# Altium footprint library wifi_alarm_clock.PcbLib: 25 footprints (part 1 of 2)
Each footprint in its own frame and in the unit in brackets; x right, y up, seen from the top. Pads: shape width x height; smd on the part's side, far side on the other; paste and mask are expansions set on the pad; w line width, h text height; cw(c..) or ccw(c..) is an arc to the next point about the centre after c.
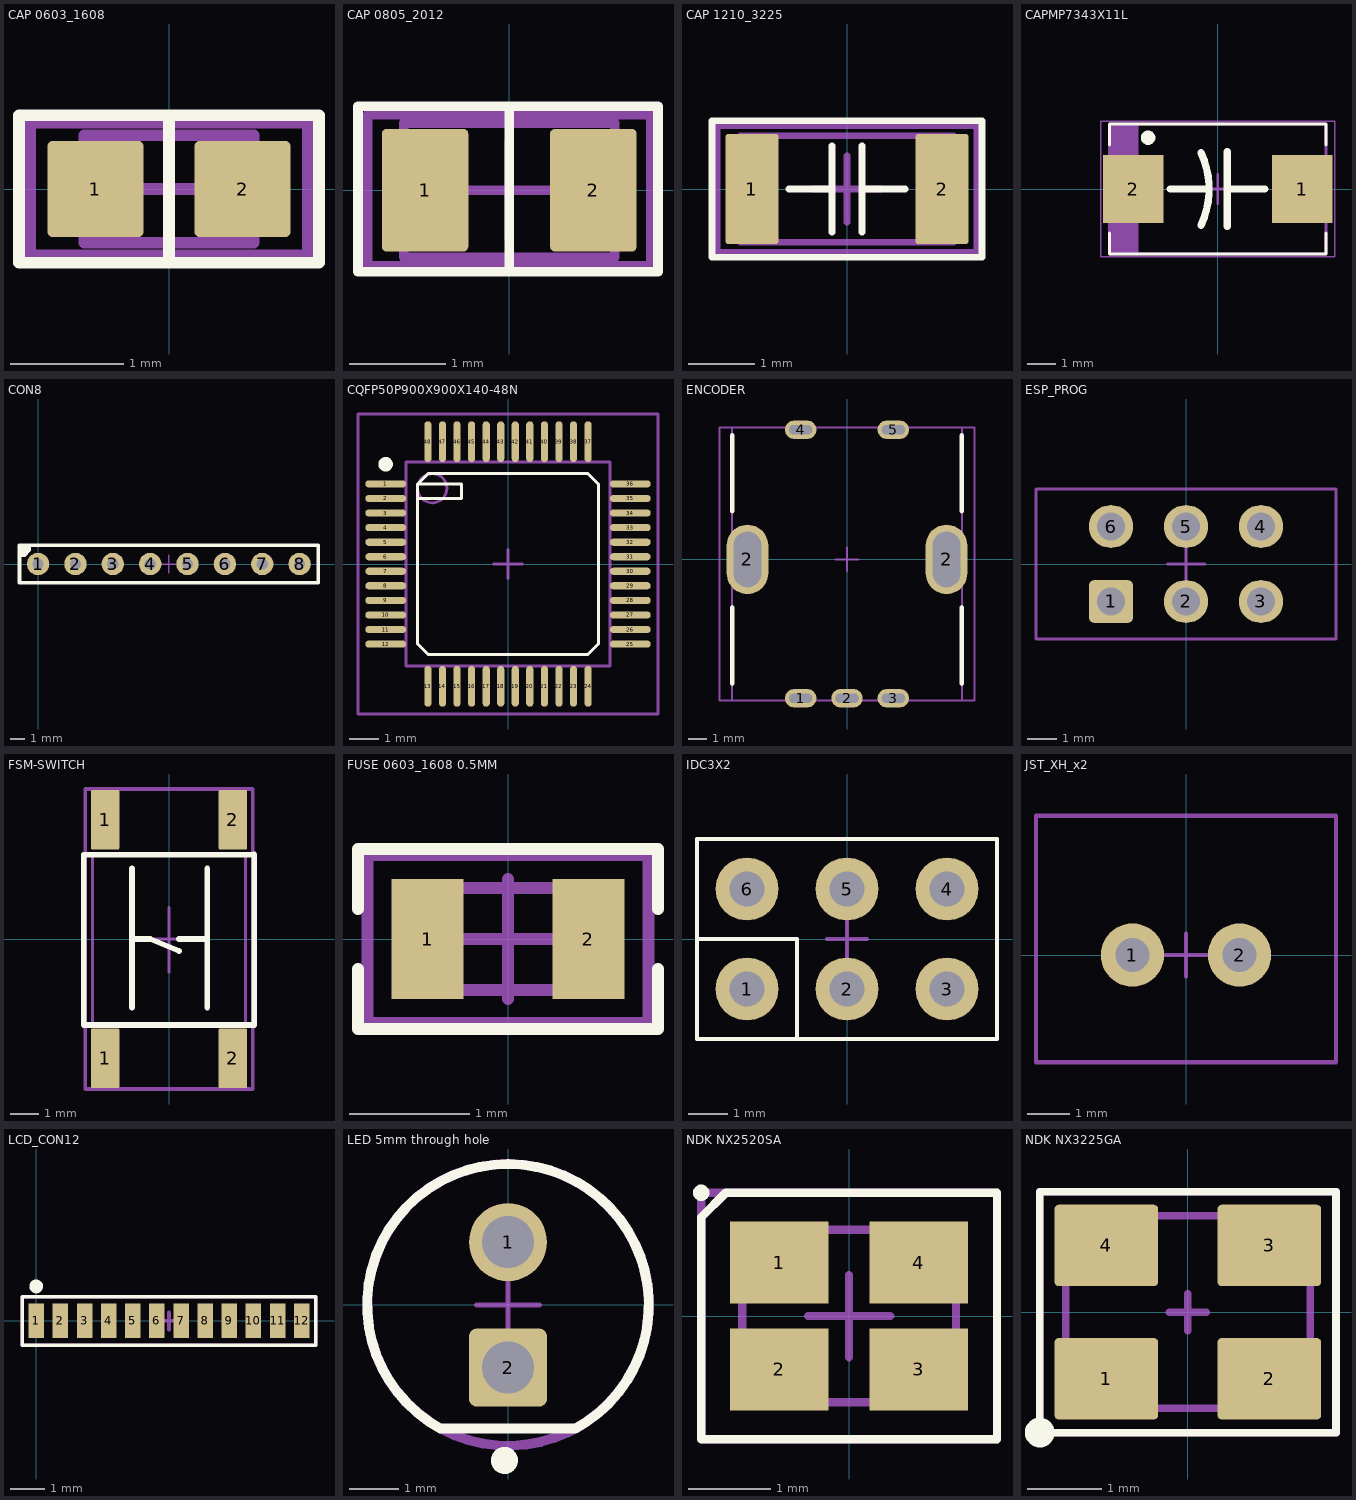
[diagram p0: the footprints below, top view; thin cyan lines are the x and y axes]

## CAP 0603_1608 [mm] "Chip Capacitor, 2-Leads, Body 1.60x0.80mm, IPC Medium Density"
height 0.89
pads (2):
  rrect10% 0.848x0.848 smd: 1(-0.65,0) 2(0.65,0)
Top Overlay:
  lines w0.102: 0,-0.65 0,0.65 ; -1.325,-0.65 1.325,-0.65 1.325,0.65 -1.325,0.65 -1.325,-0.65
Top Courtyard:
  lines w0.102: -0.475,0 0.475,0 ; 0,-0.475 0,0.475 ; -1.225,-0.584 1.225,-0.584 1.225,0.584 -1.225,0.584 -1.225,-0.584
Top Assembly:
  lines w0.102: -0.75,-0.475 0.75,-0.475 0.75,0.475 -0.75,0.475 -0.75,-0.475
3D body "0603 cap.STEP": height 0.82, standoff 0, extent -0.8,-0.412 0.8,0.412

## CAP 0805_2012 [mm] "Chip Capacitor, 2-Leads, Body 2.00x1.20mm, IPC Medium Density"
height 1.15
pads (2):
  rrect10% 0.9x1.275 smd: 1(-0.876,0) 2(0.876,0)
Top Overlay:
  lines w0.102: 0,-0.85 0,0.875 ; -1.575,-0.85 1.55,-0.85 1.55,0.875 -1.575,0.875 -1.575,-0.85
Top Courtyard:
  lines w0.1: -0.5,0 0.5,0 ; 0,-0.5 0,0.5
  lines w0.102: -1.473,-0.787 -1.473,0.787 1.473,0.787 1.473,-0.787 -1.473,-0.787
Top Assembly:
  lines w0.1: -1.1,-0.7 1.1,-0.7 1.1,0.7 -1.1,0.7 -1.1,-0.7
3D body "0805 cap.STEP": height 1.26, standoff -0.02, extent -1,-0.637 1,0.637

## CAP 1210_3225 [mm] "Chip Capacitor, 2-Leads, Body 3.20x1.60mm, IPC High Density"
height 1.2
pads (2):
  rrect10% 0.8x1.65 smd: 1(-1.425,0) 2(1.425,0)
Top Overlay:
  lines w0.102: -0.875,0 -0.225,0 ; -0.225,-0.65 -0.225,0.65 ; 0.225,-0.65 0.225,0.65 ; 0.225,0 0.875,0 ; -2.025,-1.025 2.025,-1.025 2.025,1.025 -2.025,1.025 -2.025,-1.025
Top Courtyard:
  lines w0.102: -0.5,0 0.5,0 ; 0,-0.5 0,0.5 ; -1.95,-0.95 1.95,-0.95 1.95,0.95 -1.95,0.95 -1.95,-0.95
Top Assembly:
  lines w0.102: -1.6,-0.8 1.6,-0.8 1.6,0.8 -1.6,0.8 -1.6,-0.8
3D body "CAPC3216X12L.step": height 1.2, standoff 0, extent -1.6,-0.8 1.6,0.8

## CAPMP7343X11L [mm] "Molded Capacitor, 2-Leads, Body 7.30x4.30mm, IPC High Density"
height 1.1
pads (2):
  rrect1% 2.1x2.35 smd: 1(2.925,0) 2(-2.925,0)
Top Overlay:
  circle w0.25: c-2.413,1.778 r0.125
  lines w0.102: -3.75,-1.526 -3.75,-2.25 3.75,-2.25 3.75,-1.526 ; -3.75,1.526 -3.75,2.25 3.75,2.25 3.75,1.526
  lines w0.254: -1.65,0 -0.3,0 ; -0.581,-1.268 ccw(c-3.3,0) -0.581,1.268 ; 0.325,-1.3 0.325,1.3 ; 0.325,0 1.625,0
Top Courtyard:
  lines w0.05: -4.05,-2.35 4.05,-2.35 4.05,2.35 -4.05,2.35 -4.05,-2.35
  lines w0.1: -0.5,0 0.5,0 ; 0,-0.5 0,0.5
Top Assembly:
  rectangle: -3.75,-2.25 -2.741,2.25
  lines w0.102: -3.75,-2.25 3.75,-2.25 3.75,2.25 -3.75,2.25 -3.75,-2.25
3D body "CAPMP7343X11L.step": height 1.1, standoff 0, extent -3.97,-2.25 3.97,2.25

## CON8 [mil]
pads (8):
  round 60 hole 30: 1(0,0) 2(100,0) 3(200,0) 4(300,0) 5(400,0) 6(500,0) 7(600,0) 8(700,0)
Top Overlay:
  region: -50,50 -20,50 -20,35 -35,20 -50,20
  lines w10: -50,-50 750,-50 750,50 -50,50 -50,-50
Top Courtyard:
  lines w4: 325,0 375,0 ; 350,-25 350,25 ; -51.18,-51.18 -51.18,51.18 751.97,51.18 751.97,-51.18 -51.18,-51.18
Top Assembly:
  lines w4: -49.21,-49.21 -49.21,49.21 749.02,49.21 749.02,-49.21 -49.21,-49.21

## CQFP50P900X900X140-48N [mm] "CQFP, 48-Leads, Body 9.00x9.00mm, Pitch 0.50mm, IPC Medium Density"
height 1.4
pads (48):
  oval 1.4x0.25 smd: 1(-4.2,2.75) 2(-4.2,2.25) 3(-4.2,1.75) 4(-4.2,1.25) 5(-4.2,0.75) 6(-4.2,0.25) 7(-4.2,-0.25) 8(-4.2,-0.75) 9(-4.2,-1.25) 10(-4.2,-1.75) 11(-4.2,-2.25) 12(-4.2,-2.75) 25(4.2,-2.75) 26(4.2,-2.25) 27(4.2,-1.75) 28(4.2,-1.25) 29(4.2,-0.75) 30(4.2,-0.25) 31(4.2,0.25) 32(4.2,0.75) 33(4.2,1.25) 34(4.2,1.75) 35(4.2,2.25) 36(4.2,2.75)
  oval 0.25x1.4 smd: 13(-2.75,-4.2) 14(-2.25,-4.2) 15(-1.75,-4.2) 16(-1.25,-4.2) 17(-0.75,-4.2) 18(-0.25,-4.2) 19(0.25,-4.2) 20(0.75,-4.2) 21(1.25,-4.2) 22(1.75,-4.2) 23(2.25,-4.2) 24(2.75,-4.2) 37(2.75,4.2) 38(2.25,4.2) 39(1.75,4.2) 40(1.25,4.2) 41(0.75,4.2) 42(0.25,4.2) 43(-0.25,4.2) 44(-0.75,4.2) 45(-1.25,4.2) 46(-1.75,4.2) 47(-2.25,4.2) 48(-2.75,4.2)
Top Overlay:
  circle w0.25: c-4.2,3.425 r0.125
  lines w0.102: -3.1,2.25 -1.6,2.25 -1.6,2.75 -3.1,2.75 ; -3.1,2.75 -2.75,3.1 2.75,3.1 3.1,2.75 3.1,-2.75 2.75,-3.1 -2.75,-3.1 -3.1,-2.75 -3.1,2.75
Top Courtyard:
  lines w0.102: -0.5,0 0.5,0 ; 0,-0.5 0,0.5 ; -5.15,-5.15 5.15,-5.15 5.15,5.15 -5.15,5.15 -5.15,-5.15
Top Assembly:
  circle w0.1: c-2.6,2.6 r0.5
  lines w0.1: -3.5,-3.5 3.5,-3.5 3.5,3.5 -3.5,3.5 -3.5,-3.5
3D body "CQFP50P900X900X140-48N.step": height 1.15, standoff 0, extent -4.5,-4.5 4.5,4.5

## ENCODER [mm] "Rotary encoder"
pads (7):
  oval 1.7x1 hole 0.5 slot 1.25 at 0 deg: 1(-2.5,-7.5) 2(0,-7.5) 3(2.5,-7.5) 4(-2.5,7) 5(2.5,7)
  rrect100% 2.25x3.75 hole 1.5 slot 3 at 90 deg: 2(-5.375,0)
  oval 2.25x3.75 hole 1.5 slot 3 at 90 deg: 2(5.375,0)
Top Overlay:
  lines w0.254: -6.2,-6.7 -6.2,-2.6 ; -6.2,2.6 -6.2,6.7 ; 6.2,-6.7 6.2,-2.6 ; 6.2,2.6 6.2,6.7
Top Courtyard:
  lines w0.102: -0.635,0 0.635,0 ; 0,-0.635 0,0.635 ; -6.875,-7.625 6.875,-7.625 6.875,7.125 -6.875,7.125 -6.875,-7.625
Top Assembly:
  lines w0.102: -6.2,-7.625 -6.2,7.125 6.2,7.125 6.2,-7.625 -6.2,-7.625
3D body "rotary_encoder.STEP": height 21.4, standoff -3.7, extent -6.156,-7.747 6.144,7.253

## ESP_PROG [mm]
pads (6):
  rrect25% 1.5x1.45 hole 0.95: 1(-2.54,-1.27)
  oval 1.5x1.45 hole 0.95: 2(0,-1.27) 3(2.54,-1.27) 4(2.54,1.27) 5(0,1.27) 6(-2.54,1.27)
Top Courtyard:
  lines w0.102: -0.635,0 0.635,0 ; 0,-0.635 0,0.635 ; -5.08,-2.54 -5.08,2.54 5.08,2.54 5.08,-2.54 -5.08,-2.54
Top Assembly:
  lines w0.102: -5.08,-2.54 -5.08,2.54 5.08,2.54 5.08,-2.54 -5.08,-2.54
3D body "IDC_1.27mm_2x3.step": height 5.4, standoff -2.1, extent -5.055,-2.55 5.055,2.55

## FSM-SWITCH [mm]
pads (4):
  rrect10% 1x2.1 smd: 1(-2.25,-4.2) 1(-2.25,4.2) 2(2.25,-4.2) 2(2.25,4.2)
Top Overlay:
  lines w0.2: 3,-3.028 -3,-3.028 -3,2.972 3,2.972
  lines w0.203: -1.3,-2.416 -1.3,2.487 ; -1.3,0 -0.66,0 0.353,-0.425 ; 0.353,0 1.35,0 ; 1.35,-2.416 1.35,2.487 ; 3,-3.028 3,2.972
Top Courtyard:
  lines w0.102: -1.115,0 0,0 ; 0,-1.171 0,0 ; 0,-0.028 0,1.115 ; 1.013,0 0,0
  lines w0.127: -2.946,-5.283 -2.946,5.283 2.946,5.283 2.946,-5.283 -2.946,-5.283
Top Assembly:
  lines w0.1: -2.7,-3.028 -2.7,2.972 2.7,2.972 2.7,-3.028 -2.7,-3.028
3D body "switch.stp.step": height 5.07, standoff -0.01, extent -3,-5 3,5

## FUSE 0603_1608 0.5MM [mm] "Chip Fuse 1.5A AC 5V DC, 2-Leads, Body 1.54x0.85mm"
height 0.59
pads (2):
  rect 0.6x1 smd: 1(-0.67,0) 2(0.67,0)
Top Overlay:
  lines w0.102: -1.25,-0.25 -1.25,-0.75 1.25,-0.75 1.25,-0.25 ; -1.25,0.25 -1.25,0.75 1.25,0.75 1.25,0.25
Top Courtyard:
  lines w0.102: -0.5,0 0,0 ; 0,-0.5 0,0 ; 0,0.5 0,0 ; 0.5,0 0,0 ; -1.17,-0.7 -1.17,0.7 1.17,0.7 1.17,-0.7 -1.17,-0.7
Top Assembly:
  lines w0.1: -0.77,-0.425 -0.77,0.425 0.77,0.425 0.77,-0.425 -0.77,-0.425
3D body "FUSE 0603_1608 0.5MM.step": height 0.58, standoff 0, extent -0.77,-0.425 0.77,0.425

## IDC3X2 [mm]
pads (6):
  round 1.6 hole 0.9: 1(-2.54,-1.27) 2(0,-1.27) 3(2.54,-1.27) 4(2.54,1.27) 5(0,1.27) 6(-2.54,1.27)
Top Overlay:
  lines w0.102: -3.81,0 -1.27,0 -1.27,-2.54 ; -3.81,-2.54 3.81,-2.54 3.81,2.54 -3.81,2.54 -3.81,-2.54
Top Courtyard:
  lines w0.102: -0.508,0 0.508,0 ; 0,-0.508 0,0.508 ; -3.81,-2.54 3.81,-2.54 3.81,2.54 -3.81,2.54 -3.81,-2.54
Top Assembly:
  lines w0.102: -3.81,-2.54 3.81,-2.54 3.81,2.54 -3.81,2.54 -3.81,-2.54
3D body "User Library-IDC6.step": height 8, standoff -3, extent -3.81,-2.54 3.81,2.54

## JST_XH_x2 [mm]
pads (2):
  round 1.5 hole 0.8 mask+0: 1(-1.27,0) 2(1.27,0)
Top Courtyard:
  lines w0.102: -0.508,0 0.508,0 ; 0,-0.508 0,0.508 ; -3.556,-2.54 -3.556,3.302 3.556,3.302 3.556,-2.54 -3.556,-2.54
Top Assembly:
  lines w0.102: -3.556,-2.54 -3.556,3.302 3.556,3.302 3.556,-2.54 -3.556,-2.54
3D body "JST - XH - Thru (V) - 2Pin - 2.54mm.stp": height 7.21, standoff -3, extent -3.607,-2.489 3.607,3.353

## LCD_CON12 [mm]
pads (12):
  rect 0.45x1 smd mask+0.05: 1(0,0) 2(0.7,0) 3(1.4,0) 4(2.1,0) 5(2.8,0) 6(3.5,0) 7(4.2,0) 8(4.9,0) 9(5.6,0) 10(6.3,0) 11(7,0) 12(7.7,0)
Top Overlay:
  circle w0.2: c0,1 r0.1
  lines w0.102: -0.4,-0.7 8.1,-0.7 8.1,0.7 -0.4,0.7 -0.4,-0.7
Top Courtyard:
  lines w0.102: 3.6,0 4.1,0 ; 3.85,-0.25 3.85,0.25 ; -0.4,-0.7 8.1,-0.7 8.1,0.7 -0.4,0.7 -0.4,-0.7
Top Assembly:
  lines w0.102: -0.4,-0.7 8.1,-0.7 8.1,0.7 -0.4,0.7 -0.4,-0.7
3D body "LCD_2__ER-TFT1.28-1.STEP": height 1.55, standoff 0, extent -13.943,-0.231 21.656,50.111

## LED 5mm through hole [mm] "5MM through hole LED"
pads (2):
  round 1.58 hole 1.05: 1(0,1.27)
  rrect20% 1.58x1.58 hole 1.05: 2(0,-1.27)
Top Overlay:
  circle w0.4: c-0.071,-3.147 r0.072
  lines w0.2: 1.36,-2.501 -1.366,-2.501 cw(c0,0) 1.362,-2.504
Top Courtyard:
  circle w0.2: c0,0 r2.85
  lines w0.102: -0.635,0 0.635,0 ; 0,-0.635 0,0.635
Top Assembly:
  circle w0.2: c0,0 r2.85
3D body "LED 5mm.step": height 13.8, standoff 1.31, extent -2.998,-2.5 2.998,3

## NDK NX2520SA [mm] "Crystal, 4-Leads, Body 2.00x2.50mm, Pitch 1.70mm, IPC Medium Density"
height 0.5
pads (4):
  rect 1.2x1 smd: 1(-0.85,0.65) 2(-0.85,-0.65) 3(0.85,-0.65) 4(0.85,0.65)
Top Overlay:
  circle w0.1: c-1.8,1.5 r0.05
  lines w0.102: -1.8,-1.5 -1.8,1.2 -1.5,1.5 1.8,1.5 1.8,-1.5 -1.8,-1.5
Top Courtyard:
  lines w0.102: -0.5,0 0.5,0 ; 0,-0.5 0,0.5 ; -1.8,-1.5 -1.8,1.5 1.8,1.5 1.8,-1.5 -1.8,-1.5
Top Assembly:
  lines w0.1: -1.3,-1.05 1.3,-1.05 1.3,1.05 -1.3,1.05 -1.3,-1.05
3D body "NDK NX2520SA.STEP": height 0.5, standoff 0, extent -1.26,-1.01 1.26,1.01

## NDK NX3225GA [mm] "Crystal, 4-Leads, Body 2.50x3.20mm, Pitch 2.20mm, IPC Medium Density"
height 0.6
pads (4):
  rrect10% 1.4x1.1 smd: 1(-1.1,-0.9) 2(1.1,-0.9) 3(1.1,0.9) 4(-1.1,0.9)
Top Overlay:
  circle w0.3: c-2,-1.625 r0.05
  lines w0.102: -2,-1.625 -2,1.625 2,1.625 2,-1.625 -2,-1.625
Top Courtyard:
  lines w0.102: -0.25,0 0.25,0 ; 0,-0.25 0,0.25 ; -2,-1.625 2,-1.625 2,1.625 -2,1.625 -2,-1.625
Top Assembly:
  lines w0.1: -1.65,-1.3 1.65,-1.3 1.65,1.3 -1.65,1.3 -1.65,-1.3
3D body "NDK NX3225GA.STEP": height 0.75, standoff 0, extent -1.61,-1.26 1.61,1.26